# Altium schematic symbol library Regulator_Current.SchLib: 2 symbols
Pins are listed as number, name and electrical type; pins without a type are passive.

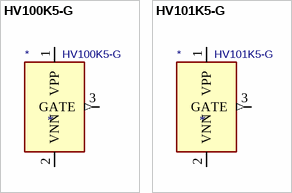
[diagram p0: symbols HV100K5-G to HV101K5-G]

## HV100K5-G
designator *  value HV100K5-G
ki_keywords: Hot-Swap Current Limiter; ki_description: Hot-Swap Current Limiter Controller, SOT223; ki_fp_filters: SOT?223*TabPin2*; Footprint: Package_TO_SOT_SMD:SOT-223-3_TabPin2; Supplier: http://ww1.microchip.com/downloads/en/devicedoc/hv100%20b060513.pdf
footprint SOT-223-3_TabPin2
pins: 1 VPP (power), 2 VNN (power), 3 GATE (out)

## HV101K5-G
designator *  value HV101K5-G
ki_keywords: Hot-Swap Current Limiter; ki_description: Hot-Swap Current Limiter Controller, SOT223; ki_fp_filters: SOT?223*TabPin2*; Footprint: Package_TO_SOT_SMD:SOT-223-3_TabPin2; Supplier: http://www.supertex.com/pdf/datasheets/HV100.pdf
footprint SOT-223-3_TabPin2
pins: 1 VPP (power), 2 VNN (power), 3 GATE (out)